# EAGLE library part USD-TOYO (library IIT_BOMBAY_Racing)
microSD Socket Push-push type uSD socket. Schematic element and footprint production proven. Spark Fun Electronics SKU : PRT-00127. tDoc lines correctly indicate media card edge positions when inserting (unlocked, locked, depressed).
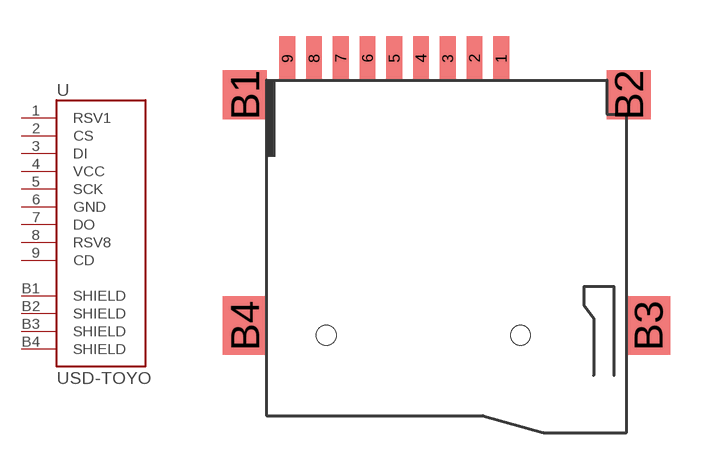
[diagram p11: symbol with the pads of MICROSD_3735; footprint MICROSD_3735]

Designator prefix U

## USD-TOYOSUNROM  [MICROSD_3735]
1  RSV1
2  CS
3  DI
4  VCC
5  SCK
6  GND
7  DO
8  RSV8
9  CD
B1  SHIELD
B2  SHIELD
B3  SHIELD
B4  SHIELD

## Footprint MICROSD_3735 (pad centres in mm)
smd 0.65 x 1.8: 1 2.25,11.4; 2 1.15,11.4; 3 0.05,11.4; 4 -1.05,11.4; 5 -2.15,11.4; 6 -3.25,11.4; 7 -4.35,11.4; 8 -5.45,11.4; 9 -6.55,11.4
smd 1.8 x 2: B1 -8.3,9.9; B2 7.5,9.9
smd 1.8 x 2.4: B3 8.3,0.4; B4 -8.3,0.4
hole 0.8 at 3.05,0
hole 0.8 at -4.95,0